# Altium schematic symbol library Capacitor.SchLib: 45 symbols
Pins are listed as number, name and electrical type; pins without a type are passive.

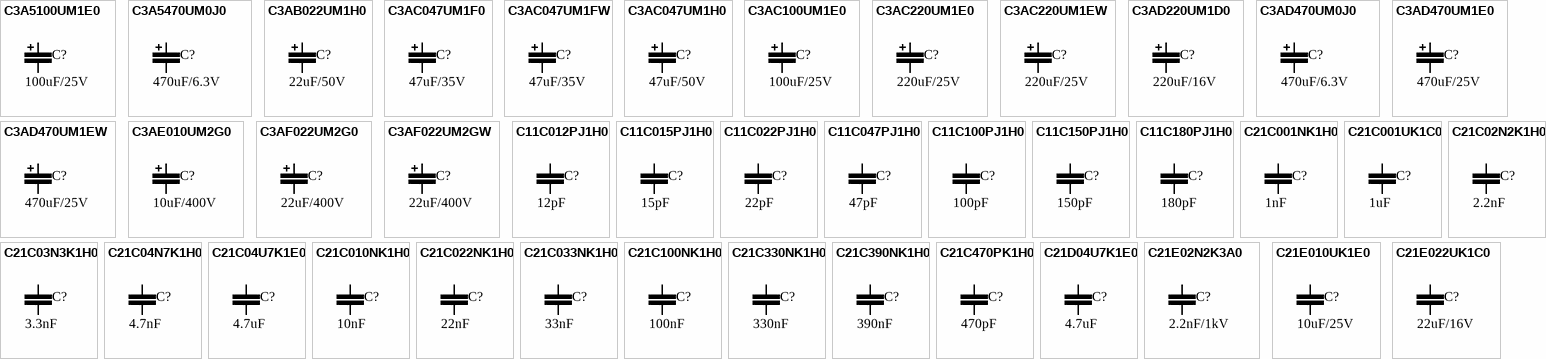
[diagram p0: symbols C3A5100UM1E0 to C21E022UK1C0]

## C3A5100UM1E0
designator C?, comment value 100uF/25V  (hidden comment: ECap)
SMD Aluminum ECAP 100uF 20% 25V 6.3X7.7; TemperatureRange: -40 to 85°C; VenderID: ECAP-100uF-20%-25V-SMD6.3X7.7; Published: 1-Jun-2017; Publisher: GreenBox; MountType: SMT; PackageReference: C-E-ALU-0607; Manufacturer: *
simulation model CAP (Capacitor)
signal-integrity model Cap
footprint C-E-ALU-0607 (Aluminium Elektrolyt Capacitor, D8 Package, D=6.3mm, □=6.6mm)
pins: 1, 2

## C3A5470UM0J0
designator C?, comment value 470uF/6.3V  (hidden comment: ECap)
SMD Aluminum ECAP 470uF 20% 6.3V 6.3X7.7; TemperatureRange: -40 to 85°C; VenderID: ECAP-470uF-20%-6.3V-SMD6.3X7.7; Published: 1-Jun-2017; Publisher: GreenBox; MountType: SMT; PackageReference: C-E-ALU-0607; Manufacturer: *
simulation model CAP (Capacitor)
signal-integrity model Cap
footprint C-E-ALU-0607 (Aluminium Elektrolyt Capacitor, D8 Package, D=6.3mm, □=6.6mm)
pins: 1, 2

## C3AB022UM1H0
designator C?, comment value 22uF/50V  (hidden comment: ECap)
DIP ECAP 22uF 20% 50V 5X11; TemperatureRange: -40°C to 105°C; VenderID: 22uF/50V 20% 5X11; Published: 1-Jun-2017; Publisher: GreenBox; MountType: DIP; PackageReference: 5X11; Manufacturer: *
simulation model CAP (Capacitor)
signal-integrity model Cap
footprint C-E-ALU-5X11 (D*P*H:5*2.0*11, d=0.7)
pins: 1, 2

## C3AC047UM1F0
designator C?, comment value 47uF/35V  (hidden comment: ECap)
DIP ECAP 47uF 20% 35V 6.3X11.5; TemperatureRange: -40°C to 105°C; VenderID: 47uF/35V 20% 6.3X11.5; Published: 1-Jun-2017; Publisher: GreenBox; MountType: DIP; PackageReference: 6.3X11.5; Manufacturer: *
simulation model CAP (Capacitor)
signal-integrity model Cap
footprint C-E-ALU-6.3X11.5 (D*P*H:6.3*2.5*11.5, d=0.7)
pins: 1, 2

## C3AC047UM1FW
designator C?, comment value 47uF/35V  (hidden comment: ECap)
DIP ECAP 47uF 20% 35V 6.3X11.5; Manufacturer: SAMXON; TemperatureRange: -40°C to 105°C; VenderID: 47uF/35V 20% 6.3X11.5; Published: 1-Jun-2017; Publisher: GreenBox; MountType: DIP; PackageReference: 6.3X11.5
simulation model CAP (Capacitor)
signal-integrity model Cap
footprint C-E-ALU-6.3X11.5 (D*P*H:6.3*2.5*11.5, d=0.7)
pins: 1, 2

## C3AC047UM1H0
designator C?, comment value 47uF/50V  (hidden comment: ECap)
DIP ECAP 47uF 20% 50V 6.3X11.5; TemperatureRange: -40°C to 105°C; VenderID: 47uF/50V 20% 6.3X11.5; Published: 1-Jun-2017; Publisher: GreenBox; MountType: DIP; PackageReference: 6.3X11.5; Manufacturer: *
simulation model CAP (Capacitor)
signal-integrity model Cap
footprint C-E-ALU-6.3X11.5 (D*P*H:6.3*2.5*11.5, d=0.7)
pins: 1, 2

## C3AC100UM1E0
designator C?, comment value 100uF/25V  (hidden comment: ECap)
DIP ECAP 100uF 20% 25V 6.3X11.5; TemperatureRange: -40°C to 105°C; VenderID: 100uF/25V 20% 6.3X11.5; Published: 1-Jun-2017; Publisher: GreenBox; MountType: DIP; PackageReference: 6.3X11.5; Manufacturer: *
simulation model CAP (Capacitor)
signal-integrity model Cap
footprint C-E-ALU-6.3X11.5 (D*P*H:6.3*2.5*11.5, d=0.7)
pins: 1, 2

## C3AC220UM1E0
designator C?, comment value 220uF/25V  (hidden comment: ECap)
DIP ECAP 220uF 20% 25V 6.3X11.5; TemperatureRange: -40°C to 105°C; VenderID: 220uF/25V 20% 6.3X11.5; Published: 1-Jun-2017; Publisher: GreenBox; MountType: DIP; PackageReference: 6.3X11.5; Manufacturer: *
simulation model CAP (Capacitor)
signal-integrity model Cap
footprint C-E-ALU-6.3X11.5 (D*P*H:6.3*2.5*11.5, d=0.7)
pins: 1, 2

## C3AC220UM1EW
designator C?, comment value 220uF/25V  (hidden comment: ECap)
DIP ECAP 220uF 20% 25V 6.3X11.5; Manufacturer: SAMXON; TemperatureRange: -40°C to 105°C; VenderID: 220uF/25V 20% 6.3X11.5; Published: 1-Jun-2017; Publisher: GreenBox; MountType: DIP; PackageReference: 6.3X11.5
simulation model CAP (Capacitor)
signal-integrity model Cap
footprint C-E-ALU-6.3X11.5 (D*P*H:6.3*2.5*11.5, d=0.7)
pins: 1, 2

## C3AD220UM1D0
designator C?, comment value 220uF/16V  (hidden comment: ECap)
DIP ECAP 220uF 20% 16V 8X5; TemperatureRange: -40°C to 105°C; VenderID: 220uF/16V 20% 8X5; Published: 1-Jun-2017; Publisher: GreenBox; MountType: DIP; PackageReference: 8X5; Manufacturer: *
simulation model CAP (Capacitor)
signal-integrity model Cap
footprint C-E-ALU-8X5 (D*P*H:8*3.5*5, d=0.7)
pins: 1, 2

## C3AD470UM0J0
designator C?, comment value 470uF/6.3V  (hidden comment: ECap)
DIP ECAP 470uF 20% 6.3V 8X5; TemperatureRange: -40°C to 105°C; VenderID: 470uF/6.3V 20% 8X5; Published: 1-Jun-2017; Publisher: GreenBox; MountType: DIP; PackageReference: 8X5; Manufacturer: *
simulation model CAP (Capacitor)
signal-integrity model Cap
footprint C-E-ALU-8X5 (D*P*H:8*3.5*5, d=0.7)
pins: 1, 2

## C3AD470UM1E0
designator C?, comment value 470uF/25V  (hidden comment: ECap)
DIP ECAP 470uF 20% 25V 8X12; TemperatureRange: -40°C to 105°C; VenderID: 470uF/25V 20% 8X12; Published: 1-Jun-2017; Publisher: GreenBox; MountType: DIP; PackageReference: 8X12; Manufacturer: *
simulation model CAP (Capacitor)
signal-integrity model Cap
footprint C-E-ALU-8X12 (D*P*H:8*3.5*12, d=0.7)
pins: 1, 2

## C3AD470UM1EW
designator C?, comment value 470uF/25V  (hidden comment: ECap)
DIP ECAP 470uF 20% 25V 8X12; Manufacturer: SAMXON; TemperatureRange: -40°C to 105°C; VenderID: 470uF/25V 20% 8X12; Published: 1-Jun-2017; Publisher: GreenBox; MountType: DIP; PackageReference: 8X12
simulation model CAP (Capacitor)
signal-integrity model Cap
footprint C-E-ALU-8X12 (D*P*H:8*3.5*12, d=0.7)
pins: 1, 2

## C3AE010UM2G0
designator C?, comment value 10uF/400V  (hidden comment: ECap)
DIP ECAP 10uF 20% 400V 10X16; TemperatureRange: -40°C to 105°C; VenderID: 10uF/400V 20% 10X16; Published: 1-Jun-2017; Publisher: GreenBox; MountType: DIP; PackageReference: 10X16; Manufacturer: *
simulation model CAP (Capacitor)
signal-integrity model Cap
footprint C-E-ALU-10X16 (D*P*H:10*5*16, d=0.8)
pins: 1, 2

## C3AF022UM2G0
designator C?, comment value 22uF/400V  (hidden comment: ECap)
DIP ECAP 22uF 20% 400V 12.5X20; TemperatureRange: -40°C to 105°C; VenderID: 22uF/400V 20% 12.5X20; Published: 1-Jun-2017; Publisher: GreenBox; MountType: DIP; PackageReference: 12.5X20; Manufacturer: *
simulation model CAP (Capacitor)
signal-integrity model Cap
footprint C-E-ALU-12.5X20 (D*P*H:12.5*5.0*20, d=0.8)
pins: 1, 2

## C3AF022UM2GW
designator C?, comment value 22uF/400V  (hidden comment: ECap)
DIP ECAP 22uF 20% 400V 12.5X20; Manufacturer: SAMXON; TemperatureRange: -40°C to 105°C; VenderID: 22uF/400V 20% 12.5X20; Published: 1-Jun-2017; Publisher: GreenBox; MountType: DIP; PackageReference: 12.5X20
simulation model CAP (Capacitor)
signal-integrity model Cap
footprint C-E-ALU-12.5X20 (D*P*H:12.5*5.0*20, d=0.8)
pins: 1, 2

## C11C012PJ1H0
designator C?, comment value 12pF  (hidden comment: Cap)
MLCC 12pF 5% 50V NPO 0603; TemperatureRange: -55°C to 150°C; VenderID: MLCC-0603-50V-120J-NPO; Published: 1-Jun-2017; Publisher: GreenBox; MountType: SMT; PackageReference: 0603; Manufacturer: *
simulation model CAP (Capacitor)
signal-integrity model Cap
footprint 0603-C (0603, Body 1.6 x 0.8 mm (LxW typ))
pins: 1, 2

## C11C015PJ1H0
designator C?, comment value 15pF  (hidden comment: Cap)
MLCC 15pF 5% 50V NPO 0603; TemperatureRange: -55°C to 150°C; VenderID: MLCC-0603-50V-150J-NPO; Published: 1-Jun-2017; Publisher: GreenBox; MountType: SMT; PackageReference: 0603; Manufacturer: *
simulation model CAP (Capacitor)
signal-integrity model Cap
footprint 0603-C (0603, Body 1.6 x 0.8 mm (LxW typ))
pins: 1, 2

## C11C022PJ1H0
designator C?, comment value 22pF  (hidden comment: Cap)
MLCC 22pF 5% 50V NPO 0603; TemperatureRange: -55°C to 150°C; VenderID: MLCC-0603-50V-220J-NPO; Published: 1-Jun-2017; Publisher: GreenBox; MountType: SMT; PackageReference: 0603; Manufacturer: *
simulation model CAP (Capacitor)
signal-integrity model Cap
footprint 0603-C (0603, Body 1.6 x 0.8 mm (LxW typ))
pins: 1, 2

## C11C047PJ1H0
designator C?, comment value 47pF  (hidden comment: Cap)
MLCC 47pF 5% 50V NPO 0603; TemperatureRange: -55°C to 150°C; VenderID: MLCC-0603-50V-470J-NPO; Published: 1-Jun-2017; Publisher: GreenBox; MountType: SMT; PackageReference: 0603; Manufacturer: *
simulation model CAP (Capacitor)
signal-integrity model Cap
footprint 0603-C (0603, Body 1.6 x 0.8 mm (LxW typ))
pins: 1, 2

## C11C100PJ1H0
designator C?, comment value 100pF  (hidden comment: Cap)
MLCC 100pF 5% 50V NPO 0603; TemperatureRange: -55°C to 150°C; VenderID: MLCC-0603-50V-101J-NPO; Published: 1-Jun-2017; Publisher: GreenBox; MountType: SMT; PackageReference: 0603; Manufacturer: *
simulation model CAP (Capacitor)
signal-integrity model Cap
footprint 0603-C (0603, Body 1.6 x 0.8 mm (LxW typ))
pins: 1, 2

## C11C150PJ1H0
designator C?, comment value 150pF  (hidden comment: Cap)
MLCC 150pF 5% 50V NPO 0603; TemperatureRange: -55°C to 150°C; VenderID: MLCC-0603-50V-151J-NPO; Published: 1-Jun-2017; Publisher: GreenBox; MountType: SMT; PackageReference: 0603; Manufacturer: *
simulation model CAP (Capacitor)
signal-integrity model Cap
footprint 0603-C (0603, Body 1.6 x 0.8 mm (LxW typ))
pins: 1, 2

## C11C180PJ1H0
designator C?, comment value 180pF  (hidden comment: Cap)
MLCC 180pF 5% 50V NPO 0603; TemperatureRange: -55°C to 150°C; VenderID: MLCC-0603-50V-181J-NPO; Published: 1-Jun-2017; Publisher: GreenBox; MountType: SMT; PackageReference: 0603; Manufacturer: *
simulation model CAP (Capacitor)
signal-integrity model Cap
footprint 0603-C (0603, Body 1.6 x 0.8 mm (LxW typ))
pins: 1, 2

## C21C001NK1H0
designator C?, comment value 1nF  (hidden comment: Cap)
MLCC 1nF 10% 50V X7R 0603; TemperatureRange: -55°C to 150°C; VenderID: MLCC-0603-50V-102K-X7R; Published: 1-Jun-2017; Publisher: GreenBox; MountType: SMT; PackageReference: 0603; Manufacturer: *
simulation model CAP (Capacitor)
signal-integrity model Cap
footprint 0603-C (0603, Body 1.6 x 0.8 mm (LxW typ))
pins: 1, 2

## C21C001UK1C0
designator C?, comment value 1uF  (hidden comment: Cap)
MLCC 1uF 10% 16V X7R 0603; TemperatureRange: -55°C to 150°C; VenderID: MLCC-0603-16V-105K-X7R; Published: 1-Jun-2017; Publisher: GreenBox; MountType: SMT; PackageReference: 0603; Manufacturer: *
simulation model CAP (Capacitor)
signal-integrity model Cap
footprint 0603-C (0603, Body 1.6 x 0.8 mm (LxW typ))
pins: 1, 2

## C21C02N2K1H0
designator C?, comment value 2.2nF  (hidden comment: Cap)
MLCC 2.2nF 10% 50V X7R 0603; TemperatureRange: -55°C to 150°C; VenderID: MLCC-0603-50V-222K-X7R; Published: 1-Jun-2017; Publisher: GreenBox; MountType: SMT; PackageReference: 0603; Manufacturer: *
simulation model CAP (Capacitor)
signal-integrity model Cap
footprint 0603-C (0603, Body 1.6 x 0.8 mm (LxW typ))
pins: 1, 2

## C21C03N3K1H0
designator C?, comment value 3.3nF  (hidden comment: Cap)
MLCC 3.3nF 10% 50V X7R 0603; TemperatureRange: -55°C to 150°C; VenderID: MLCC-0603-50V-332K-X7R; Published: 1-Jun-2017; Publisher: GreenBox; MountType: SMT; PackageReference: 0603; Manufacturer: *
simulation model CAP (Capacitor)
signal-integrity model Cap
footprint 0603-C (0603, Body 1.6 x 0.8 mm (LxW typ))
pins: 1, 2

## C21C04N7K1H0
designator C?, comment value 4.7nF  (hidden comment: Cap)
MLCC 4.7nF 10% 50V X7R 0603; TemperatureRange: -55°C to 150°C; VenderID: MLCC-0603-50V-472K-X7R; Published: 1-Jun-2017; Publisher: GreenBox; MountType: SMT; PackageReference: 0603; Manufacturer: *
simulation model CAP (Capacitor)
signal-integrity model Cap
footprint 0603-C (0603, Body 1.6 x 0.8 mm (LxW typ))
pins: 1, 2

## C21C04U7K1E0
designator C?, comment value 4.7uF  (hidden comment: Cap)
MLCC 4.7uF 10% 25V X7R 0603; TemperatureRange: -55°C to 150°C; VenderID: MLCC-0603-25V-475K-X7R; Published: 1-Jun-2017; Publisher: GreenBox; MountType: SMT; PackageReference: 0603; Manufacturer: *
simulation model CAP (Capacitor)
signal-integrity model Cap
footprint 0603-C (0603, Body 1.6 x 0.8 mm (LxW typ))
pins: 1, 2

## C21C010NK1H0
designator C?, comment value 10nF  (hidden comment: Cap)
MLCC 10nF 10% 50V X7R 0603; TemperatureRange: -55°C to 150°C; VenderID: MLCC-0603-50V-103K-X7R; Published: 1-Jun-2017; Publisher: GreenBox; MountType: SMT; PackageReference: 0603; Manufacturer: *
simulation model CAP (Capacitor)
signal-integrity model Cap
footprint 0603-C (0603, Body 1.6 x 0.8 mm (LxW typ))
pins: 1, 2

## C21C022NK1H0
designator C?, comment value 22nF  (hidden comment: Cap)
MLCC 22nF 10% 50V X7R 0603; TemperatureRange: -55°C to 150°C; VenderID: MLCC-0603-50V-223K-X7R; Published: 1-Jun-2017; Publisher: GreenBox; MountType: SMT; PackageReference: 0603; Manufacturer: *
simulation model CAP (Capacitor)
signal-integrity model Cap
footprint 0603-C (0603, Body 1.6 x 0.8 mm (LxW typ))
pins: 1, 2

## C21C033NK1H0
designator C?, comment value 33nF  (hidden comment: Cap)
MLCC 33nF 10% 50V X7R 0603; TemperatureRange: -55°C to 150°C; VenderID: MLCC-0603-50V-333K-X7R; Published: 1-Jun-2017; Publisher: GreenBox; MountType: SMT; PackageReference: 0603; Manufacturer: *
simulation model CAP (Capacitor)
signal-integrity model Cap
footprint 0603-C (0603, Body 1.6 x 0.8 mm (LxW typ))
pins: 1, 2

## C21C100NK1H0
designator C?, comment value 100nF  (hidden comment: Cap)
MLCC 100nF 10% 50V X7R 0603; TemperatureRange: -55°C to 150°C; VenderID: MLCC-0603-50V-104K-X7R; Published: 1-Jun-2017; Publisher: GreenBox; MountType: SMT; PackageReference: 0603; Manufacturer: *
simulation model CAP (Capacitor)
signal-integrity model Cap
footprint 0603-C (0603, Body 1.6 x 0.8 mm (LxW typ))
pins: 1, 2

## C21C330NK1H0
designator C?, comment value 330nF  (hidden comment: Cap)
MLCC 330nF 10% 50V X7R 0603; TemperatureRange: -55°C to 150°C; VenderID: MLCC-0603-50V-334K-X7R; Published: 1-Jun-2017; Publisher: GreenBox; MountType: SMT; PackageReference: 0603; Manufacturer: *
simulation model CAP (Capacitor)
signal-integrity model Cap
footprint 0603-C (0603, Body 1.6 x 0.8 mm (LxW typ))
pins: 1, 2

## C21C390NK1H0
designator C?, comment value 390nF  (hidden comment: Cap)
MLCC 390nF 10% 50V X7R 0603; TemperatureRange: -55°C to 150°C; VenderID: MLCC-0603-50V-394K-X7R; Published: 1-Jun-2017; Publisher: GreenBox; MountType: SMT; PackageReference: 0603; Manufacturer: *
simulation model CAP (Capacitor)
signal-integrity model Cap
footprint 0603-C (0603, Body 1.6 x 0.8 mm (LxW typ))
pins: 1, 2

## C21C470PK1H0
designator C?, comment value 470pF  (hidden comment: Cap)
MLCC 470pF 10% 50V X7R 0603; TemperatureRange: -55°C to 150°C; VenderID: MLCC-0603-50V-471K-X7R; Published: 1-Jun-2017; Publisher: GreenBox; MountType: SMT; PackageReference: 0603; Manufacturer: *
simulation model CAP (Capacitor)
signal-integrity model Cap
footprint 0603-C (0603, Body 1.6 x 0.8 mm (LxW typ))
pins: 1, 2

## C21D04U7K1E0
designator C?, comment value 4.7uF  (hidden comment: Cap)
MLCC 4.7uF 10% 25V X7R 0805; TemperatureRange: -55°C to 150°C; VenderID: MLCC-0805-25V-475K-X7R; Published: 1-Jun-2017; Publisher: GreenBox; MountType: SMT; PackageReference: 0805; Manufacturer: *
simulation model CAP (Capacitor)
signal-integrity model Cap
footprint 0805-C (0805, Body 2.0 x 1.3 mm (LxW typ))
pins: 1, 2

## C21E02N2K3A0
designator C?, comment value 2.2nF/1kV  (hidden comment: High-Volt Cap)
MLCC 2.2nF 10% 1000V X7R 1206; TemperatureRange: -55°C to 150°C; VenderID: MLCC-1206-1000V-222K-X7R; Published: 1-Jun-2017; Publisher: GreenBox; MountType: SMT; PackageReference: 1206; Manufacturer: *
simulation model CAP (Capacitor)
signal-integrity model Cap
footprint 1206-C (Body 3.2 x 1.6 mm (LxW typ))
pins: 1, 2

## C21E010UK1E0
designator C?, comment value 10uF/25V  (hidden comment: Cap)
MLCC 10uF 10% 25V X7R 1206; TemperatureRange: -55°C to 150°C; VenderID: MLCC-1206-25V-106K-X7R; Published: 1-Jun-2017; Publisher: GreenBox; MountType: SMT; PackageReference: 1206; Manufacturer: *
simulation model CAP (Capacitor)
signal-integrity model Cap
footprint 1206-C (Body 3.2 x 1.6 mm (LxW typ))
pins: 1, 2

## C21E022UK1C0
designator C?, comment value 22uF/16V  (hidden comment: Cap)
MLCC 22uF 10% 16V X7R 1206; TemperatureRange: -55°C to 150°C; VenderID: MLCC-1206-16V-226K-X7R; Published: 1-Jun-2017; Publisher: GreenBox; MountType: SMT; PackageReference: 1206; Manufacturer: *
simulation model CAP (Capacitor)
signal-integrity model Cap
footprint 1206-C (Body 3.2 x 1.6 mm (LxW typ))
pins: 1, 2

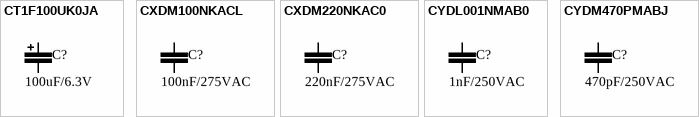
[diagram p1: symbols CT1F100UK0JA to CYDM470PMABJ]

## CT1F100UK0JA
designator C?, comment value 100uF/6.3V  (hidden comment: ECap)
Tantalum Capacitors 100uF 10% 6.3V B3528; Manufacturer: AVX; TemperatureRange: -55 to 125°C; VenderID: TAJB107K006RNJ; ESR: 1R7; Published: 1-Jun-2017; Publisher: GreenBox; MountType: SMT; PackageReference: B3528
simulation model CAP (Capacitor)
signal-integrity model Cap
footprint C-T-B3528 (B3528, Body 3.5 x 2.8 mm (LxW typ))
pins: 1, 2

## CXDM100NKACL
designator C?, comment value 100nF/275VAC  (hidden comment: FILM Cap)
FILM CAP 100nF 10% 275VAC MPX X2 10mm; Manufacturer: CARLI; TemperatureRange: -40°C to 110°C; VenderID: PX104K3IC39H200D9R; Published: 1-Jun-2017; Publisher: GreenBox; MountType: DIP; PackageReference: C3; PackageDescription: C3, Body 13x6mm, Pitch 10mm
simulation model CAP (Capacitor)
signal-integrity model Cap
footprint C-F-C3 (C3, Body 13x6mm, Pitch 10mm)
pins: 1, 2

## CXDM220NKAC0
designator C?, comment value 220nF/275VAC  (hidden comment: FILM Cap)
FILM CAP 220nF 10% 275VAC MPX X2 10mm; TemperatureRange: -40°C to 110°C; Published: 1-Jun-2017; Publisher: GreenBox; MountType: DIP; PackageReference: C3; VenderID: *; Manufacturer: *; PackageDescription: C3, Body 13x6mm, Pitch 10mm
simulation model CAP (Capacitor)
signal-integrity model Cap
footprint C-F-C3 (C3, Body 13x6mm, Pitch 10mm)
pins: 1, 2

## CYDL001NMAB0
designator C?, comment value 1nF/250VAC  (hidden comment: Y Cap)
Y CAP 1nF 20% 250VAC Y2; TemperatureRange: -25°C to 125°C; Published: 1-Jun-2017; Publisher: GreenBox; MountType: DIP; PackageReference: Y-D7.5; VenderID: *; Manufacturer: *; PackageDescription: D=7.5mm
simulation model CAP (Capacitor)
signal-integrity model Cap
footprint Y-D7.5
pins: 1, 2

## CYDM470PMABJ
designator C?, comment value 470pF/250VAC  (hidden comment: Y Cap)
Y CAP 470pF 20% 250VAC Y1; Manufacturer: JIANAI; TemperatureRange: -25°C to 125°C; VenderID: Y1-471K-250V; Published: 1-Jun-2017; Publisher: GreenBox; MountType: DIP; PackageReference: YCAP-13*7*10; PackageDescription: D=10mm
simulation model CAP (Capacitor)
signal-integrity model Cap
footprint YCAP-13*7*10
pins: 1, 2